# EAGLE library part MCP6567 (library SteveMarple)
MCP6567 Microchip MCP6567, rail-to-rail comparato with open-drain output. Supply voltage 18.V - 5.5V.
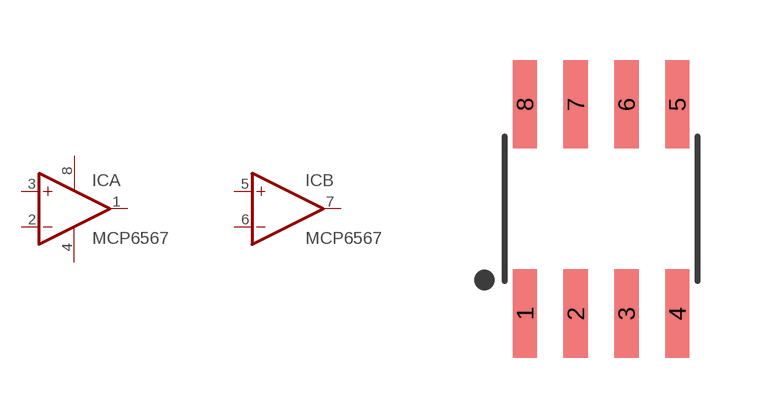
[diagram p25: symbol with the pads of SO08; footprint SO08]

Designator prefix IC; gates A=OPAMP B=OPAMP G$1=PWR+GND

## MCP6567  [SO08]
1  A:OUT  out
2  A:-IN  in
3  A:+IN  in
4  G$1:GND  pwr
5  B:+IN  in
6  B:-IN  in
7  B:OUT  out
8  G$1:V+  pwr

## Footprint SO08 (pad centres in mm)
smd 0.61 x 2.21: 1 -1.905,-2.616; 2 -0.635,-2.616; 3 0.635,-2.616; 4 1.905,-2.616; 5 1.905,2.616; 6 0.635,2.616; 7 -0.635,2.616; 8 -1.905,2.616